# EAGLE library part DOOBA_IONODE (library dooba)
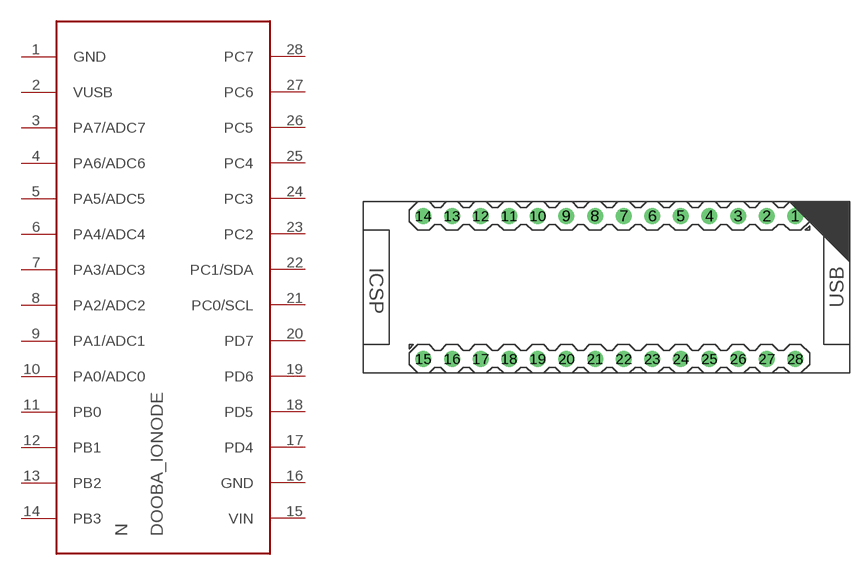
[diagram p29: symbol with the pads of DOOBA_IONODE; footprint DOOBA_IONODE]

Designator prefix N

## DOOBA_IONODE  [DOOBA_IONODE]
1  GND
2  VUSB
3  PA7/ADC7
4  PA6/ADC6
5  PA5/ADC5
6  PA4/ADC4
7  PA3/ADC3
8  PA2/ADC2
9  PA1/ADC1
10  PA0/ADC0
11  PB0
12  PB1
13  PB2
14  PB3
15  VIN
16  GND
17  PD4
18  PD5
19  PD6
20  PD7
21  PC0/SCL
22  PC1/SDA
23  PC2
24  PC3
25  PC4
26  PC5
27  PC6
28  PC7

## Footprint DOOBA_IONODE (pad centres in mm)
drill 0.8 pad 1.422: 1 16.51,6.35; 2 13.97,6.35; 3 11.43,6.35; 4 8.89,6.35; 5 6.35,6.35; 6 3.81,6.35; 7 1.27,6.35; 8 -1.27,6.35; 9 -3.81,6.35; 10 -6.35,6.35; 11 -8.89,6.35; 12 -11.43,6.35; 13 -13.97,6.35; 14 -16.51,6.35; 15 -16.51,-6.35; 16 -13.97,-6.35; 17 -11.43,-6.35; 18 -8.89,-6.35; 19 -6.35,-6.35; 20 -3.81,-6.35; 21 -1.27,-6.35; 22 1.27,-6.35; 23 3.81,-6.35; 24 6.35,-6.35; 25 8.89,-6.35; 26 11.43,-6.35; 27 13.97,-6.35; 28 16.51,-6.35